# EAGLE library part PIN6 (library mylib)
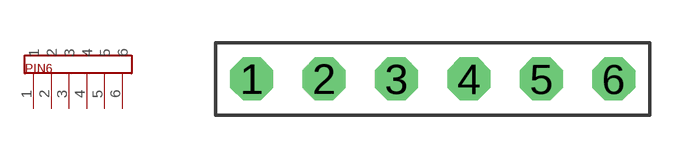
[diagram p5: symbol with the pads of PIN6; footprint PIN6]

Designator prefix -

## PIN6  [PIN6]
1  1
2  2
3  3
4  4
5  5
6  6

## Footprint PIN6 (pad centres in mm)
drill 1 octagon: 1 -6.35,0; 2 -3.81,0; 3 -1.27,0; 4 1.27,0; 5 3.81,0; 6 6.35,0